# Altium footprint library ESP32-S3-WROOM-1-N8R8.PcbLib: 1 footprints
Each footprint in its own frame and in the unit in brackets; x right, y up, seen from the top. Pads: shape width x height; smd on the part's side, far side on the other; paste and mask are expansions set on the pad; w line width, h text height; cw(c..) or ccw(c..) is an arc to the next point about the centre after c.
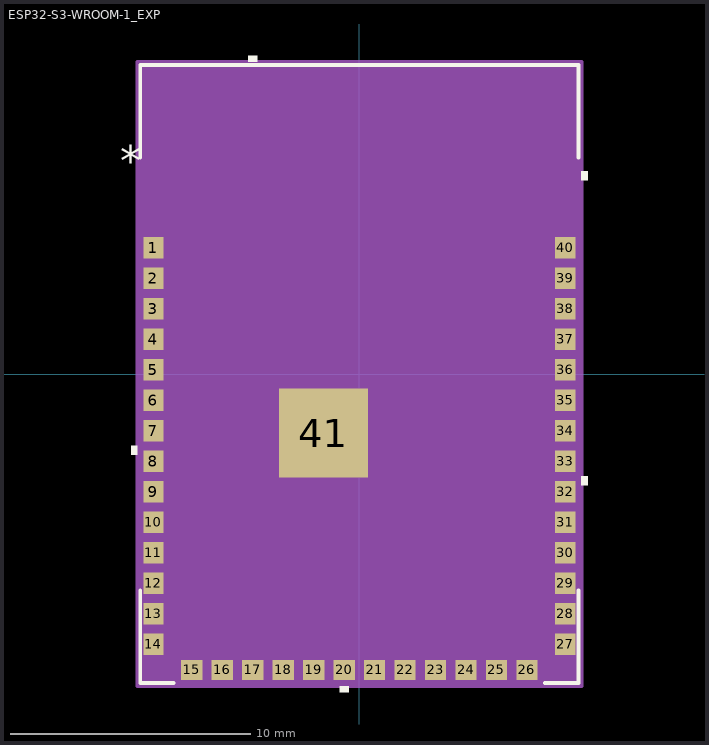
[diagram p0: the footprint, top view; thin cyan lines are the x and y axes]

## ESP32-S3-WROOM-1_EXP [mil]
pads (41):
  rect 33x35 smd paste+0 mask+0: 1(-337.83,206.84) 2(-337.83,156.84) 3(-337.83,106.84) 4(-337.83,56.84) 5(-337.83,6.84) 6(-337.83,-43.16) 7(-337.83,-93.16) 8(-337.83,-143.16) 9(-337.83,-193.16) 10(-337.83,-243.16) 11(-337.83,-293.16) 12(-337.83,-343.16) 13(-337.83,-393.16) 14(-337.83,-443.16) 27(337.83,-443.16) 28(337.83,-393.16) 29(337.83,-343.16) 30(337.83,-293.16) 31(337.83,-243.16) 32(337.83,-193.16) 33(337.83,-143.16) 34(337.83,-93.16) 35(337.83,-43.16) 36(337.83,6.84) 37(337.83,56.84) 38(337.83,106.84) 39(337.83,156.84) 40(337.83,206.84)
  rect 35x33 smd paste+0 mask+0: 15(-275,-485.47) 16(-225,-485.47) 17(-175,-485.47) 18(-125,-485.47) 19(-75,-485.47) 20(-25,-485.47) 21(25,-485.47) 22(75,-485.47) 23(125,-485.47) 24(175,-485.47) 25(225,-485.47) 26(275,-485.47)
  rect 146x146 smd paste-72.5 mask+0: 41(-58.89,-96.88)
Top Overlay:
  region: -364.33,-117.5 -374.33,-117.5 -374.33,-132.5 -364.33,-132.5
  region: -17.5,-511.97 -32.5,-511.97 -32.5,-521.97 -17.5,-521.97
  region: 364.33,-167.5 374.33,-167.5 374.33,-182.5 364.33,-182.5
  region: 364.33,332.5 374.33,332.5 374.33,317.5 364.33,317.5
  region: -167.5,511.97 -182.5,511.97 -182.5,521.97 -167.5,521.97
  lines w6: -359.5,-354.54 -359.5,-507 -304.6,-507 ; -359.5,354.54 -359.5,507 359.5,507 359.5,354.54 ; 304.6,-507 359.5,-507 359.5,-354.54
  text "*" at -391.83,325 h50
Top Paste:
  region: -3.94,69.06 -69.06,69.06 -69.06,3.94 -3.94,3.94
  region: -3.94,-3.94 -69.06,-3.94 -69.06,-69.06 -3.94,-69.06
  region: 69.06,69.06 3.94,69.06 3.94,3.94 69.06,3.94
  region: 69.06,-3.94 3.94,-3.94 3.94,-69.06 69.06,-69.06
Mechanical 13:
  drawing of 166 lines, arcs and shapes, not listed
  text "*" at -333.83,325 h50
Mechanical 15:
  region: -302.5,-512 -364.5,-512 -364.5,-352.5 -364.5,352.5 -364.5,512 -302.5,512 302.5,512 364.5,512 364.5,352.5 364.5,-352.5 364.5,-512 302.5,-512
  lines w6: -364.5,-352.5 -364.5,-512 -302.5,-512 ; -364.5,-352.5 -364.5,-352.5 ; -364.5,-352.5 -364.5,352.5 ; -364.5,352.5 -364.5,352.5 ; -364.5,352.5 -364.5,512 -302.5,512 ; -302.5,-512 302.5,-512 ; -302.5,-512 -302.5,-512 ; -302.5,512 -302.5,512 ; -302.5,512 302.5,512 ; 302.5,-512 364.5,-512 364.5,-352.5 ; 302.5,-512 302.5,-512 ; 302.5,512 302.5,512 ; 302.5,512 364.5,512 364.5,352.5 ; 364.5,-352.5 364.5,352.5 ; 364.5,-352.5 364.5,-352.5 ; 364.5,352.5 364.5,352.5